# EAGLE library part PCA9530 (library user)
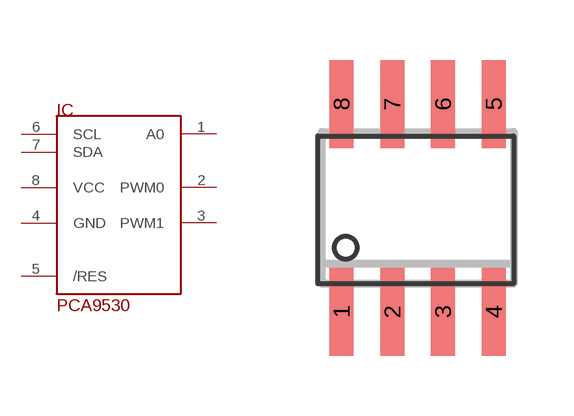
[diagram p0: symbol with the pads of SOIC-8; footprint SOIC-8]

Designator prefix IC

## PCA9530  [SOIC-8]
1  A0  in
2  PWM0  out
3  PWM1  out
4  GND  pwr
5  /RES  in
6  SCL  in
7  SDA  in
8  VCC  pwr

## Footprint SOIC-8 (pad centres in mm)
smd 0.6 x 2.2: 1 -1.905,-2.6; 2 -0.635,-2.6; 3 0.635,-2.6; 4 1.905,-2.6; 5 1.905,2.6; 6 0.635,2.6; 7 -0.635,2.6; 8 -1.905,2.6